# Altium footprint library CN 20355612.PcbLib: 1 footprints
Each footprint in its own frame and in the unit in brackets; x right, y up, seen from the top. Pads: shape width x height; smd on the part's side, far side on the other; paste and mask are expansions set on the pad; w line width, h text height; cw(c..) or ccw(c..) is an arc to the next point about the centre after c.
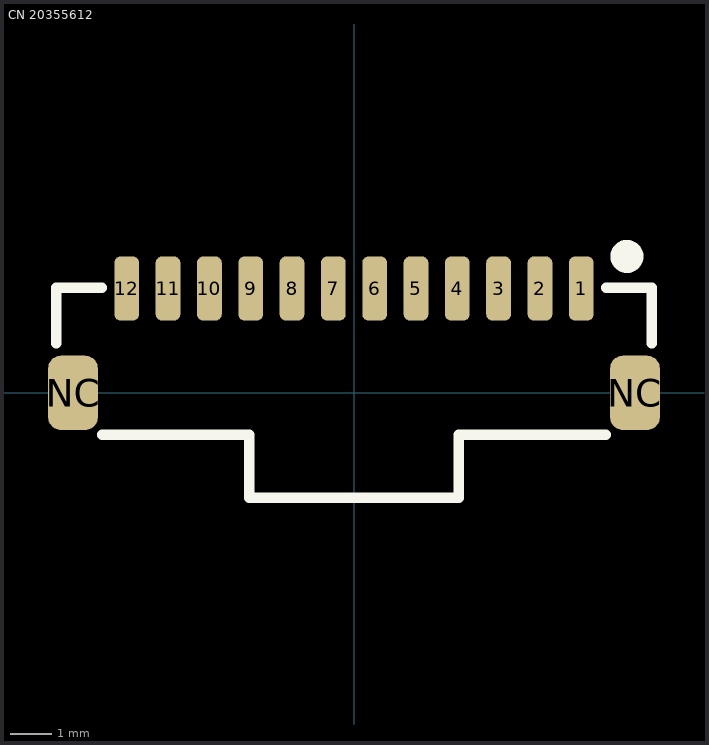
[diagram p0: the footprint, top view; thin cyan lines are the x and y axes]

## CN 20355612 [mm] "12 Circuit SMD Right Angle PicoClasp"
pads (14):
  rrect50% 0.6x1.55 smd: 1(5.5,2.525) 2(4.5,2.525) 3(3.5,2.525) 4(2.5,2.525) 5(1.5,2.525) 6(0.5,2.525) 7(-0.5,2.525) 8(-1.5,2.525) 9(-2.5,2.525) 10(-3.5,2.525) 11(-4.5,2.525) 12(-5.5,2.525)
  rrect50% 1.2x1.8 smd: NC(-6.8,0) NC(6.8,0)
Top Overlay:
  circle w0.5: c6.604,3.302 r0.15
  lines w0.254: -7.2,1.2 -7.2,2.54 -6.1,2.54 ; -6.096,-1.016 -2.54,-1.016 -2.54,-2.54 2.54,-2.54 2.54,-1.016 6.096,-1.016 ; 6.1,2.54 7.21,2.54 7.21,1.2
3D body "2035561207.stp": height 5.54, standoff 0, extent -7.12,-2.435 7.12,2.9